# EAGLE library part LFE5UM5G-85F-8MG285C (library LFE5UM5G-85F-8MG285C)
ECP5-5G Field Programmable Gate Array (FPGA) IC 118 3833856 84000 285-TFBGA Source: Datasheet <https://datasheet.datasheetarchive.com/originals/distributors/DKDS41/DSANUWW0025462.pdf>
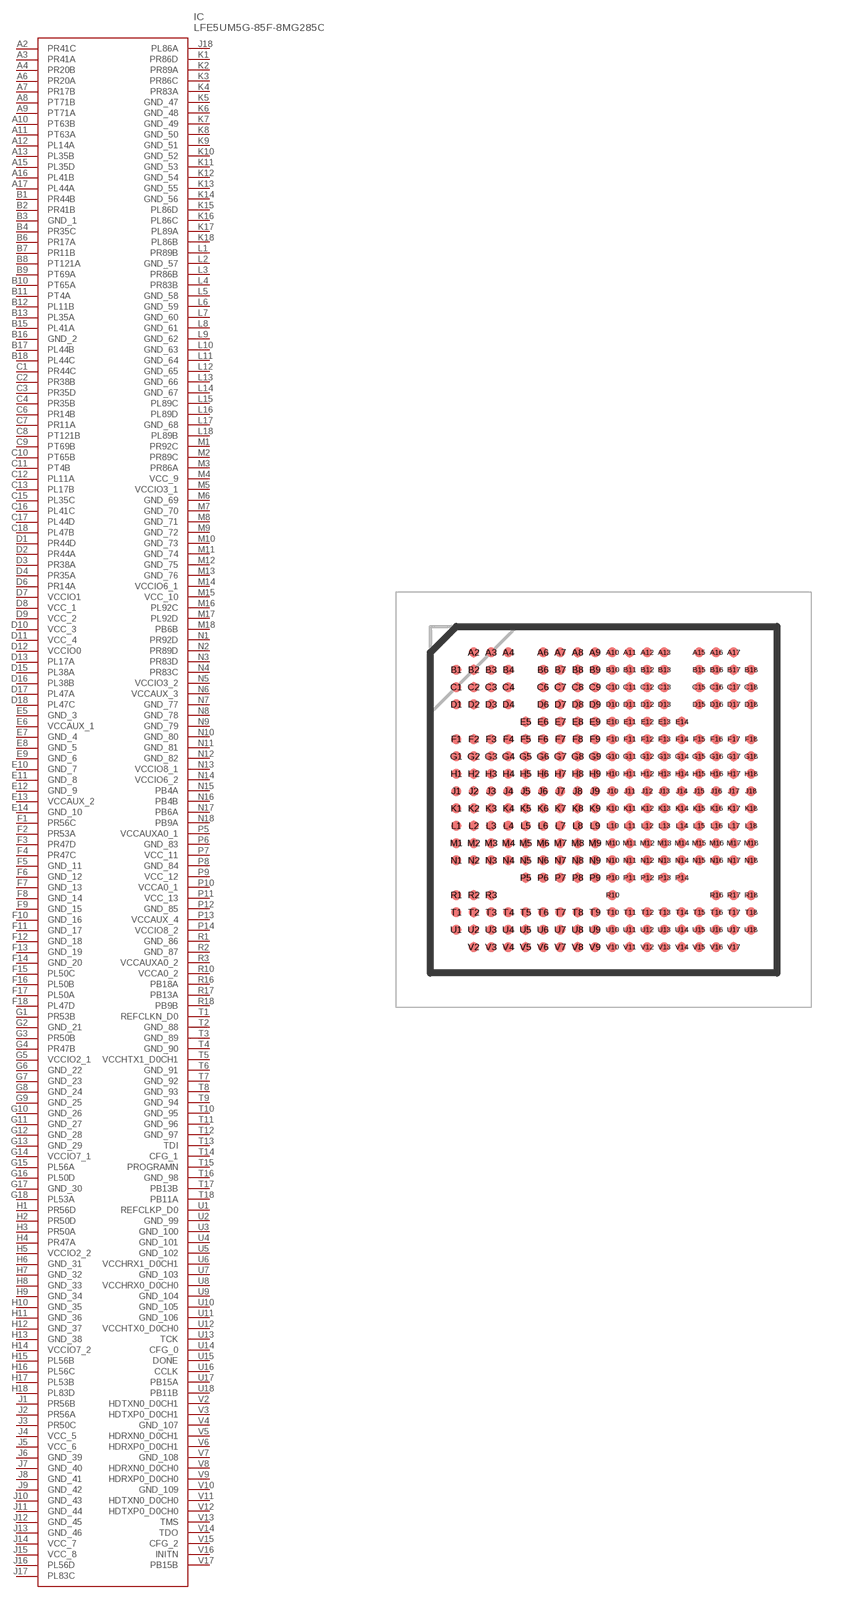
[diagram p0: symbol with the pads of BGA285C50P18X18_1000X1000X130; footprint BGA285C50P18X18_1000X1000X130]

Designator prefix IC

## LFE5UM5G-85F-8MG285C (Description: ECP5-5G Field Programmable Gate Array (FPGA) IC 118 3833856 84000 285-TFBGA; Height: 1.3mm; Manufacturer_Name: Lattice Semiconductor; Manufacturer_Part_Number: LFE5UM5G-85F-8MG285C; Mouser_Part_Number: 842-5UM5G85F8MG285C; Mouser_Price-Stock: https://www.mouser.co.uk/ProductDetail/Lattice/LFE5UM5G-85F-8MG285C?qs=Rp3RbKSfAt0l1MN8lieMGw%3D%3D)  [BGA285C50P18X18_1000X1000X130]
A2  PR41C
A3  PR41A
A4  PR20B
A6  PR20A
A7  PR17B
A8  PT71B
A9  PT71A
A10  PT63B
A11  PT63A
A12  PL14A
A13  PL35B
A15  PL35D
A16  PL41B
A17  PL44A
B1  PR44B
B2  PR41B
B3  GND_1
B4  PR35C
B6  PR17A
B7  PR11B
B8  PT121A
B9  PT69A
B10  PT65A
B11  PT4A
B12  PL11B
B13  PL35A
B15  PL41A
B16  GND_2
B17  PL44B
B18  PL44C
C1  PR44C
C2  PR38B
C3  PR35D
C4  PR35B
C6  PR14B
C7  PR11A
C8  PT121B
C9  PT69B
C10  PT65B
C11  PT4B
C12  PL11A
C13  PL17B
C15  PL35C
C16  PL41C
C17  PL44D
C18  PL47B
D1  PR44D
D2  PR44A
D3  PR38A
D4  PR35A
D6  PR14A
D7  VCCIO1
D8  VCC_1
D9  VCC_2
D10  VCC_3
D11  VCC_4
D12  VCCIO0
D13  PL17A
D15  PL38A
D16  PL38B
D17  PL47A
D18  PL47C
E5  GND_3
E6  VCCAUX_1
E7  GND_4
E8  GND_5
E9  GND_6
E10  GND_7
E11  GND_8
E12  GND_9
E13  VCCAUX_2
E14  GND_10
F1  PR56C
F2  PR53A
F3  PR47D
F4  PR47C
F5  GND_11
F6  GND_12
F7  GND_13
F8  GND_14
F9  GND_15
F10  GND_16
F11  GND_17
F12  GND_18
F13  GND_19
F14  GND_20
F15  PL50C
F16  PL50B
F17  PL50A
F18  PL47D
G1  PR53B
G2  GND_21
G3  PR50B
G4  PR47B
G5  VCCIO2_1
G6  GND_22
G7  GND_23
G8  GND_24
G9  GND_25
G10  GND_26
G11  GND_27
G12  GND_28
G13  GND_29
G14  VCCIO7_1
G15  PL56A
G16  PL50D
G17  GND_30
G18  PL53A
H1  PR56D
H2  PR50D
H3  PR50A
H4  PR47A
H5  VCCIO2_2
H6  GND_31
H7  GND_32
H8  GND_33
H9  GND_34
H10  GND_35
H11  GND_36
H12  GND_37
H13  GND_38
H14  VCCIO7_2
H15  PL56B
H16  PL56C
H17  PL53B
H18  PL83D
J1  PR56B
J2  PR56A
J3  PR50C
J4  VCC_5
J5  VCC_6
J6  GND_39
J7  GND_40
J8  GND_41
J9  GND_42
J10  GND_43
J11  GND_44
J12  GND_45
J13  GND_46
J14  VCC_7
J15  VCC_8
J16  PL56D
J17  PL83C
J18  PL86A
K1  PR86D
K2  PR89A
K3  PR86C
K4  PR83A
K5  GND_47
K6  GND_48
K7  GND_49
K8  GND_50
K9  GND_51
K10  GND_52
K11  GND_53
K12  GND_54
K13  GND_55
K14  GND_56
K15  PL86D
K16  PL86C
K17  PL89A
K18  PL86B
L1  PR89B
L2  GND_57
L3  PR86B
L4  PR83B
L5  GND_58
L6  GND_59
L7  GND_60
L8  GND_61
L9  GND_62
L10  GND_63
L11  GND_64
L12  GND_65
L13  GND_66
L14  GND_67
L15  PL89C
L16  PL89D
L17  GND_68
L18  PL89B
M1  PR92C
M2  PR89C
M3  PR86A
M4  VCC_9
M5  VCCIO3_1
M6  GND_69
M7  GND_70
M8  GND_71
M9  GND_72
M10  GND_73
M11  GND_74
M12  GND_75
M13  GND_76
M14  VCCIO6_1
M15  VCC_10
M16  PL92C
M17  PL92D
M18  PB6B
N1  PR92D
N2  PR89D
N3  PR83D
N4  PR83C
N5  VCCIO3_2
N6  VCCAUX_3
N7  GND_77
N8  GND_78
N9  GND_79
N10  GND_80
N11  GND_81
N12  GND_82
N13  VCCIO8_1
N14  VCCIO6_2
N15  PB4A
N16  PB4B
N17  PB6A
N18  PB9A
P5  VCCAUXA0_1
P6  GND_83
P7  VCC_11
P8  GND_84
P9  VCC_12
P10  VCCA0_1
P11  VCC_13
P12  GND_85
P13  VCCAUX_4
P14  VCCIO8_2
R1  GND_86
R2  GND_87
R3  VCCAUXA0_2
R10  VCCA0_2
R16  PB18A
R17  PB13A
R18  PB9B
T1  REFCLKN_D0
T2  GND_88
T3  GND_89
T4  GND_90
T5  VCCHTX1_D0CH1
T6  GND_91
T7  GND_92
T8  GND_93
T9  GND_94
T10  GND_95
T11  GND_96
T12  GND_97
T13  TDI
T14  CFG_1
T15  PROGRAMN
T16  GND_98
T17  PB13B
T18  PB11A
U1  REFCLKP_D0
U2  GND_99
U3  GND_100
U4  GND_101
U5  GND_102
U6  VCCHRX1_D0CH1
U7  GND_103
U8  VCCHRX0_D0CH0
U9  GND_104
U10  GND_105
U11  GND_106
U12  VCCHTX0_D0CH0
U13  TCK
U14  CFG_0
U15  DONE
U16  CCLK
U17  PB15A
U18  PB11B
V2  HDTXN0_D0CH1
V3  HDTXP0_D0CH1
V4  GND_107
V5  HDRXN0_D0CH1
V6  HDRXP0_D0CH1
V7  GND_108
V8  HDRXN0_D0CH0
V9  HDRXP0_D0CH0
V10  GND_109
V11  HDTXN0_D0CH0
V12  HDTXP0_D0CH0
V13  TMS
V14  TDO
V15  CFG_2
V16  INITN
V17  PB15B

## Footprint BGA285C50P18X18_1000X1000X130 (pad centres in mm)
285-Ball csfBGA Package
smd 0.29 x 0.29: A2 -3.75,4.25; A3 -3.25,4.25; A4 -2.75,4.25; A6 -1.75,4.25; A7 -1.25,4.25; A8 -0.75,4.25; A9 -0.25,4.25; A10 0.25,4.25; A11 0.75,4.25; A12 1.25,4.25; A13 1.75,4.25; A15 2.75,4.25; A16 3.25,4.25; A17 3.75,4.25; B1 -4.25,3.75; B2 -3.75,3.75; B3 -3.25,3.75; B4 -2.75,3.75; B6 -1.75,3.75; B7 -1.25,3.75; B8 -0.75,3.75; B9 -0.25,3.75; B10 0.25,3.75; B11 0.75,3.75; B12 1.25,3.75; B13 1.75,3.75; B15 2.75,3.75; B16 3.25,3.75; B17 3.75,3.75; B18 4.25,3.75; C1 -4.25,3.25; C2 -3.75,3.25; C3 -3.25,3.25; C4 -2.75,3.25; C6 -1.75,3.25; C7 -1.25,3.25; C8 -0.75,3.25; C9 -0.25,3.25; C10 0.25,3.25; C11 0.75,3.25; C12 1.25,3.25; C13 1.75,3.25; C15 2.75,3.25; C16 3.25,3.25; C17 3.75,3.25; C18 4.25,3.25; D1 -4.25,2.75; D2 -3.75,2.75; D3 -3.25,2.75; D4 -2.75,2.75; D6 -1.75,2.75; D7 -1.25,2.75; D8 -0.75,2.75; D9 -0.25,2.75; D10 0.25,2.75; D11 0.75,2.75; D12 1.25,2.75; D13 1.75,2.75; D15 2.75,2.75; D16 3.25,2.75; D17 3.75,2.75; D18 4.25,2.75; E5 -2.25,2.25; E6 -1.75,2.25; E7 -1.25,2.25; E8 -0.75,2.25; E9 -0.25,2.25; E10 0.25,2.25; E11 0.75,2.25; E12 1.25,2.25; E13 1.75,2.25; E14 2.25,2.25; F1 -4.25,1.75; F2 -3.75,1.75; F3 -3.25,1.75; F4 -2.75,1.75; F5 -2.25,1.75; F6 -1.75,1.75; F7 -1.25,1.75; F8 -0.75,1.75; F9 -0.25,1.75; F10 0.25,1.75; F11 0.75,1.75; F12 1.25,1.75; F13 1.75,1.75; F14 2.25,1.75; F15 2.75,1.75; F16 3.25,1.75; F17 3.75,1.75; F18 4.25,1.75; G1 -4.25,1.25; G2 -3.75,1.25; G3 -3.25,1.25; G4 -2.75,1.25; G5 -2.25,1.25; G6 -1.75,1.25; G7 -1.25,1.25; G8 -0.75,1.25; G9 -0.25,1.25; G10 0.25,1.25; G11 0.75,1.25; G12 1.25,1.25; G13 1.75,1.25; G14 2.25,1.25; G15 2.75,1.25; G16 3.25,1.25; G17 3.75,1.25; G18 4.25,1.25; H1 -4.25,0.75; H2 -3.75,0.75; H3 -3.25,0.75; H4 -2.75,0.75; H5 -2.25,0.75; H6 -1.75,0.75; H7 -1.25,0.75; H8 -0.75,0.75; H9 -0.25,0.75; H10 0.25,0.75; H11 0.75,0.75; H12 1.25,0.75; H13 1.75,0.75; H14 2.25,0.75; H15 2.75,0.75; H16 3.25,0.75; H17 3.75,0.75; H18 4.25,0.75; J1 -4.25,0.25; J2 -3.75,0.25; J3 -3.25,0.25; J4 -2.75,0.25; J5 -2.25,0.25; J6 -1.75,0.25; J7 -1.25,0.25; J8 -0.75,0.25; J9 -0.25,0.25; J10 0.25,0.25; J11 0.75,0.25; J12 1.25,0.25; J13 1.75,0.25; J14 2.25,0.25; J15 2.75,0.25; J16 3.25,0.25; J17 3.75,0.25; J18 4.25,0.25; K1 -4.25,-0.25; K2 -3.75,-0.25; K3 -3.25,-0.25; K4 -2.75,-0.25; K5 -2.25,-0.25; K6 -1.75,-0.25; K7 -1.25,-0.25; K8 -0.75,-0.25; K9 -0.25,-0.25; K10 0.25,-0.25; K11 0.75,-0.25; K12 1.25,-0.25; K13 1.75,-0.25; K14 2.25,-0.25; K15 2.75,-0.25; K16 3.25,-0.25; K17 3.75,-0.25; K18 4.25,-0.25; L1 -4.25,-0.75; L2 -3.75,-0.75; L3 -3.25,-0.75; L4 -2.75,-0.75; L5 -2.25,-0.75; L6 -1.75,-0.75; L7 -1.25,-0.75; L8 -0.75,-0.75; L9 -0.25,-0.75; L10 0.25,-0.75; L11 0.75,-0.75; L12 1.25,-0.75; L13 1.75,-0.75; L14 2.25,-0.75; L15 2.75,-0.75; L16 3.25,-0.75; L17 3.75,-0.75; L18 4.25,-0.75; M1 -4.25,-1.25; M2 -3.75,-1.25; M3 -3.25,-1.25; M4 -2.75,-1.25; M5 -2.25,-1.25; M6 -1.75,-1.25; M7 -1.25,-1.25; M8 -0.75,-1.25; M9 -0.25,-1.25; M10 0.25,-1.25; M11 0.75,-1.25; M12 1.25,-1.25; M13 1.75,-1.25; M14 2.25,-1.25; M15 2.75,-1.25; M16 3.25,-1.25; M17 3.75,-1.25; M18 4.25,-1.25; N1 -4.25,-1.75; N2 -3.75,-1.75; N3 -3.25,-1.75; N4 -2.75,-1.75; N5 -2.25,-1.75; N6 -1.75,-1.75; N7 -1.25,-1.75; N8 -0.75,-1.75; N9 -0.25,-1.75; N10 0.25,-1.75; N11 0.75,-1.75; N12 1.25,-1.75; N13 1.75,-1.75; N14 2.25,-1.75; N15 2.75,-1.75; N16 3.25,-1.75; N17 3.75,-1.75; N18 4.25,-1.75; P5 -2.25,-2.25; P6 -1.75,-2.25; P7 -1.25,-2.25; P8 -0.75,-2.25; P9 -0.25,-2.25; P10 0.25,-2.25; P11 0.75,-2.25; P12 1.25,-2.25; P13 1.75,-2.25; P14 2.25,-2.25; R1 -4.25,-2.75; R2 -3.75,-2.75; R3 -3.25,-2.75; R10 0.25,-2.75; R16 3.25,-2.75; R17 3.75,-2.75; R18 4.25,-2.75; T1 -4.25,-3.25; T2 -3.75,-3.25; T3 -3.25,-3.25; T4 -2.75,-3.25; T5 -2.25,-3.25; T6 -1.75,-3.25; T7 -1.25,-3.25; T8 -0.75,-3.25; T9 -0.25,-3.25; T10 0.25,-3.25; T11 0.75,-3.25; T12 1.25,-3.25; T13 1.75,-3.25; T14 2.25,-3.25; T15 2.75,-3.25; T16 3.25,-3.25; T17 3.75,-3.25; T18 4.25,-3.25; U1 -4.25,-3.75; U2 -3.75,-3.75; U3 -3.25,-3.75; U4 -2.75,-3.75; U5 -2.25,-3.75; U6 -1.75,-3.75; U7 -1.25,-3.75; U8 -0.75,-3.75; U9 -0.25,-3.75; U10 0.25,-3.75; U11 0.75,-3.75; U12 1.25,-3.75; U13 1.75,-3.75; U14 2.25,-3.75; U15 2.75,-3.75; U16 3.25,-3.75; U17 3.75,-3.75; U18 4.25,-3.75; V2 -3.75,-4.25; V3 -3.25,-4.25; V4 -2.75,-4.25; V5 -2.25,-4.25; V6 -1.75,-4.25; V7 -1.25,-4.25; V8 -0.75,-4.25; V9 -0.25,-4.25; V10 0.25,-4.25; V11 0.75,-4.25; V12 1.25,-4.25; V13 1.75,-4.25; V14 2.25,-4.25; V15 2.75,-4.25; V16 3.25,-4.25; V17 3.75,-4.25